# Altium footprint library DHT11 SOCKET.PcbLib: 1 footprints
Each footprint in its own frame and in the unit in brackets; x right, y up, seen from the top. Pads: shape width x height; smd on the part's side, far side on the other; paste and mask are expansions set on the pad; w line width, h text height; cw(c..) or ccw(c..) is an arc to the next point about the centre after c.
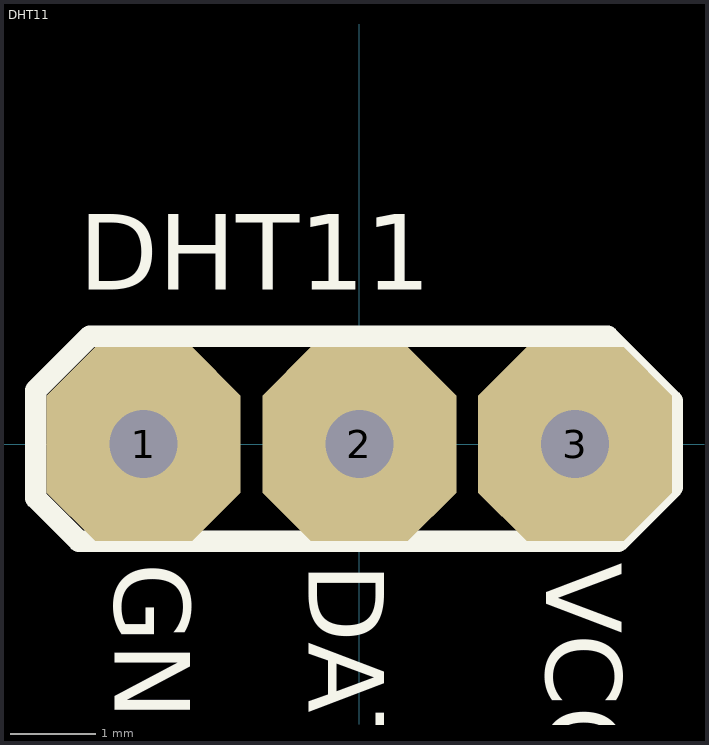
[diagram p0: the footprint, top view; thin cyan lines are the x and y axes]

## DHT11 [mil]
pads (3):
  oct 90x90 hole 31.5: 1(-100,0) 2(0,0) 3(100,0)
Top Overlay:
  lines w10: -150,-25 -150,25 -125,50 115,50 145,20 145,-20 120,-45 -130,-45 -150,-25
  text "GND" at -125,-55 h60
  text "DATA" at -35,-55 h60
  text "VCC" at 75,-55 h60
  text "DHT11" at -130,60 h60